# EAGLE library part WIZFI360 (library WIZnet)
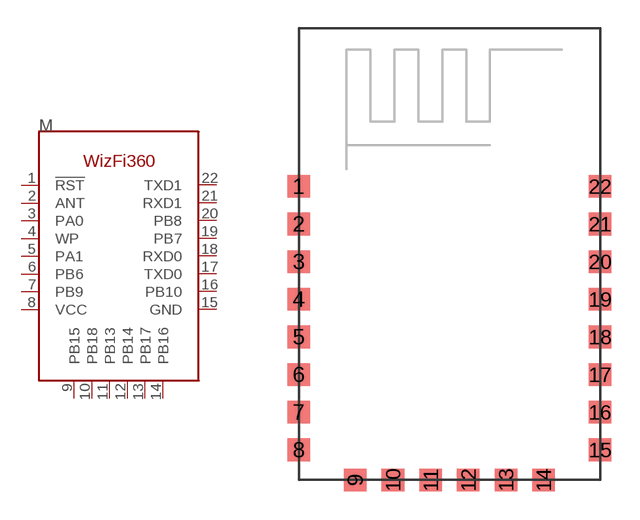
[diagram p17: symbol with the pads of WIZFI360; footprint WIZFI360]

Designator prefix M

## WIZFI360  [WIZFI360]
1  !RST!
2  ANT
3  PA0
4  WP
5  PA1
6  PB6
7  PB9
8  VCC
9  PB15
10  PB18
11  PB13
12  PB14
13  PB17
14  PB16
15  GND
16  PB10
17  TXD0
18  RXD0
19  PB7
20  PB8
21  RXD1
22  TXD1

## Footprint WIZFI360 (pad centres in mm)
smd 1.2 x 1.2: 1 -8,3.6; 2 -8,1.6; 3 -8,-0.4; 4 -8,-2.4; 5 -8,-4.4; 6 -8,-6.4; 7 -8,-8.4; 8 -8,-10.4; 9 -5,-12; 10 -3,-12; 11 -1,-12; 12 1,-12; 13 3,-12; 14 5,-12; 15 8,-10.4; 16 8,-8.4; 17 8,-6.4; 18 8,-4.4; 19 8,-2.4; 20 8,-0.4; 21 8,1.6; 22 8,3.6